# EAGLE library part 66200611022 (library Wuerth_Elektronik_eiCan_08_Micro_Power_Connectors)
WR-MPC3 3.00mm Male Single Row Angled Header with Plastic Pegs, 6 Pins
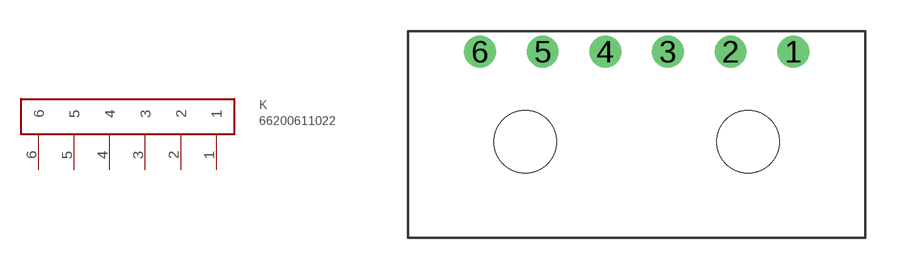
[diagram p77: symbol with the pads of 66200611022; footprint 66200611022]

Designator prefix K

## 66200611022  [66200611022]
1  1
2  2
3  3
4  4
5  5
6  6

## Footprint 66200611022 (pad centres in mm)
WR-MPC3 3.00mm Male Single Row Angled Header with Plastic Pegs, 6 Pins
drill 1.02 round: 1 1.5,0; 2 -1.5,0; 3 -4.5,0; 4 -7.5,0; 5 -10.5,0; 6 -13.5,0
hole 3 at -0.66,-4.32
hole 3 at -11.34,-4.32